# Altium schematic symbol library SCH - POWER - LINEAR VREG - TI TPS736125_DRB_8.SchLib: 1 symbol
Pins are listed as number, name and electrical type; pins without a type are passive.

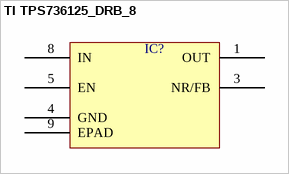
[diagram p0: symbol TI TPS736125_DRB_8]

## TI TPS736125_DRB_8
designator IC?  (value not drawn)
pins: 1 OUT, 3 NR/FB, 4 GND, 5 EN, 8 IN, 9 EPAD